# Altium footprint library F407ZGT6.PcbLib: 60 footprints (part 4 of 4)
Each footprint in its own frame and in the unit in brackets; x right, y up, seen from the top. Pads: shape width x height; smd on the part's side, far side on the other; paste and mask are expansions set on the pad; w line width, h text height; cw(c..) or ccw(c..) is an arc to the next point about the centre after c.
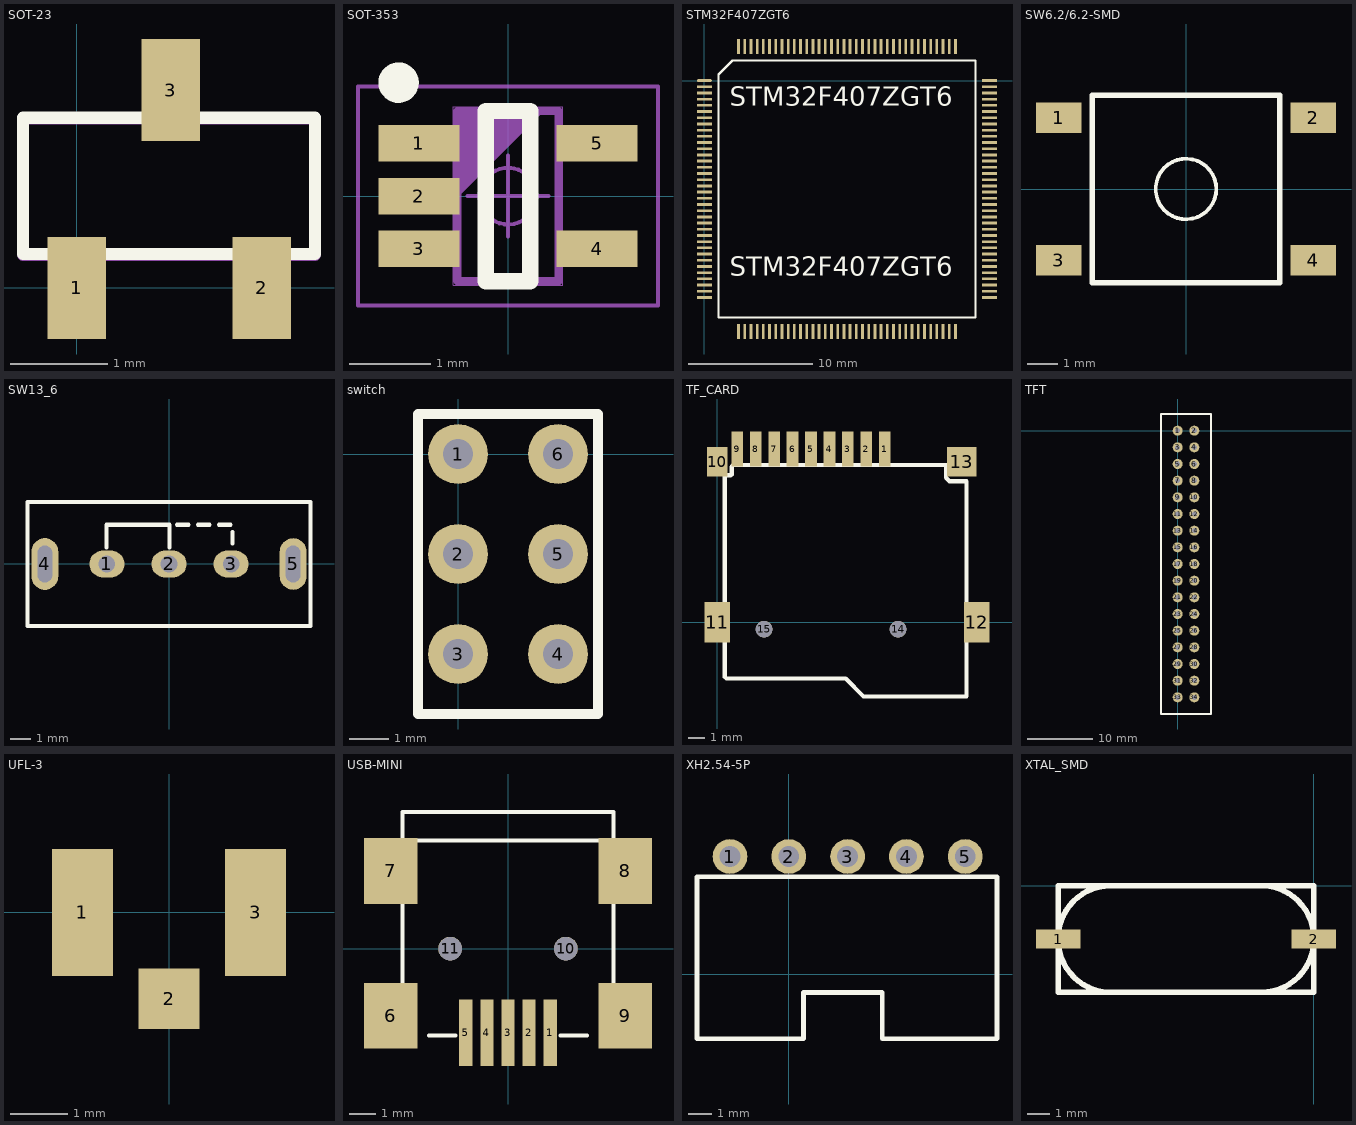
[diagram p3: the footprints below, top view; thin cyan lines are the x and y axes]

## SOT-23 [mm]
pads (3):
  rect 0.6x1.05 smd: 1(0,0) 2(1.9,0) 3(0.965,2.032)
Top Overlay:
  lines w0.127: -0.553,0.348 2.447,0.348 2.447,1.748 -0.553,1.748 -0.553,0.348
Mechanical 1:
  lines w0.127: -0.554,0.342 2.446,0.342 2.446,1.742 -0.554,1.742 -0.554,0.342

## SOT-353 [mm]
height 1.1
pads (5):
  rect 1x0.45 smd: 1(-1.1,0.65) 2(-1.1,0) 3(-1.1,-0.65) 4(1.1,-0.65) 5(1.1,0.65)
Top Overlay:
  circle w0.25: c-1.35,1.4 r0.125
  lines w0.2: -0.275,-1.05 -0.275,1.05 0.275,1.05 0.275,-1.05 -0.275,-1.05
Mechanical 1:
  lines w0.1: -0.625,0.05 0.375,1.05 ; -0.625,0.15 0.275,1.05 ; -0.625,0.25 0.175,1.05 ; -0.625,0.35 0.075,1.05 ; -0.625,0.45 -0.025,1.05 ; -0.625,0.55 -0.125,1.05 ; -0.625,0.65 -0.225,1.05 ; -0.625,0.75 -0.325,1.05 ; -0.625,0.85 -0.425,1.05 ; -0.625,0.95 -0.525,1.05 ; -0.625,-1.05 -0.625,1.05 0.625,1.05 0.625,-1.05 -0.625,-1.05
Mechanical 16:
  circle w0.05: c0,0 r0.35
  lines w0.001: -0.675,-1.1 -0.675,1.1 0.675,1.1 0.675,-1.1 -0.675,-1.1
  lines w0.05: -0.5,0 0.5,0 ; 0,-0.5 0,0.5 ; -1.85,-1.35 -1.85,1.35 1.85,1.35 1.85,-1.35 -1.85,-1.35

## STM32F407ZGT6 [mm]
pads (144):
  oval 1.2x0.22 smd: 1(0,0)
  rect 1.2x0.22 smd: 2(0,-0.5) 3(0,-1) 4(0,-1.5) 5(0,-2) 6(0,-2.5) 7(0,-3) 8(0,-3.5) 9(0,-4) 10(0,-4.5) 11(0,-5) 12(0,-5.5) 13(0,-6) 14(0,-6.5) 15(0,-7) 16(0,-7.5) 17(0,-8) 18(0,-8.5) 19(0,-9) 20(0,-9.5) 21(0,-10) 22(0,-10.5) 23(0,-11) 24(0,-11.5) 25(0,-12) 26(0,-12.5) 27(0,-13) 28(0,-13.5) 29(0,-14) 30(0,-14.5) 31(0,-15) 32(0,-15.5) 33(0,-16) 34(0,-16.5) 35(0,-17) 36(0,-17.5) 73(23,-17.5) 74(23,-17) 75(23,-16.5) 76(23,-16) 77(23,-15.5) 78(23,-15) 79(23,-14.5) 80(23,-14) 81(23,-13.5) 82(23,-13) 83(23,-12.5) 84(23,-12) 85(23,-11.5) 86(23,-11) 87(23,-10.5) 88(23,-10) 89(23,-9.5) 90(23,-9) 91(23,-8.5) 92(23,-8) 93(23,-7.5) 94(23,-7) 95(23,-6.5) 96(23,-6) 97(23,-5.5) 98(23,-5) 99(23,-4.5) 100(23,-4) 101(23,-3.5) 102(23,-3) 103(23,-2.5) 104(23,-2) 105(23,-1.5) 106(23,-1) 107(23,-0.5) 108(23,0)
  rect 0.22x1.2 smd: 37(2.75,-20.25) 38(3.25,-20.25) 39(3.75,-20.25) 40(4.25,-20.25) 41(4.75,-20.25) 42(5.25,-20.25) 43(5.75,-20.25) 44(6.25,-20.25) 45(6.75,-20.25) 46(7.25,-20.25) 47(7.75,-20.25) 48(8.25,-20.25) 49(8.75,-20.25) 50(9.25,-20.25) 51(9.75,-20.25) 52(10.25,-20.25) 53(10.75,-20.25) 54(11.25,-20.25) 55(11.75,-20.25) 56(12.25,-20.25) 57(12.75,-20.25) 58(13.25,-20.25) 59(13.75,-20.25) 60(14.25,-20.25) 61(14.75,-20.25) 62(15.25,-20.25) 63(15.75,-20.25) 64(16.25,-20.25) 65(16.75,-20.25) 66(17.25,-20.25) 67(17.75,-20.25) 68(18.25,-20.25) 69(18.75,-20.25) 70(19.25,-20.25) 71(19.75,-20.25) 72(20.25,-20.25) 109(20.25,2.75) 110(19.75,2.75) 111(19.25,2.75) 112(18.75,2.75) 113(18.25,2.75) 114(17.75,2.75) 115(17.25,2.75) 116(16.75,2.75) 117(16.25,2.75) 118(15.75,2.75) 119(15.25,2.75) 120(14.75,2.75) 121(14.25,2.75) 122(13.75,2.75) 123(13.25,2.75) 124(12.75,2.75) 125(12.25,2.75) 126(11.75,2.75) 127(11.25,2.75) 128(10.75,2.75) 129(10.25,2.75) 130(9.75,2.75) 131(9.25,2.75) 132(8.75,2.75) 133(8.25,2.75) 134(7.75,2.75) 135(7.25,2.75) 136(6.75,2.75) 137(6.25,2.75) 138(5.75,2.75) 139(5.25,2.75) 140(4.75,2.75) 141(4.25,2.75) 142(3.75,2.75) 143(3.25,2.75) 144(2.75,2.75)
Top Overlay:
  lines w0.2: 1.135,-19.115 1.135,0.48 2.27,1.615 21.865,1.615 21.865,-19.115 1.135,-19.115
  text "STM32F407ZGT6" at 2.032,-2.032 h1.52
  text "STM32F407ZGT6" at 2.032,-15.748 h1.52

## SW6.2/6.2-SMD [mm]
pads (4):
  rect 1.5x1 smd: 1(-4.2,2.35) 2(4.2,2.35) 3(-4.2,-2.35) 4(4.2,-2.35)
Top Overlay:
  circle w0.127: c0,0 r1
  lines w0.178: -3.1,-3.1 -3.1,3.1 3.1,3.1 3.1,-3.1 -3.1,-3.1

## SW13_6 [mm]
pads (5):
  oval 1.7x1.3 hole 0.8: 1(-3,0) 2(0,0) 3(3,0)
  oval 1.3x2.5 hole 0.7 slot 1.778 at 90 deg: 4(-6,0) 5(6,0)
Top Overlay:
  lines w0.203: -3.023,0.8 -3.023,1.9 0.025,1.9 0.025,0.8 ; 0.381,1.9 0.94,1.9 ; 1.397,1.9 1.956,1.9 ; 2.413,1.9 2.972,1.9 ; 3.073,0.984 3.073,1.543 ; -6.833,-3 6.833,-3 6.833,3 -6.833,3 -6.833,-3

## switch [mil]
pads (6):
  round 60 hole 30: 1(0,0) 2(0,-100) 3(0,-200) 4(100,-200) 5(100,-100) 6(100,0)
Top Overlay:
  lines w10: -40,-260 -40,40 140,40 140,-260 -40,-260

## TF_CARD [mm]
pads (15):
  rect 0.7x2.1 smd: 1(10,10.35) 2(8.9,10.35) 3(7.8,10.35) 4(6.7,10.35) 5(5.6,10.35) 6(4.5,10.35) 7(3.4,10.35) 8(2.3,10.35) 9(1.2,10.35)
  rect 1.2x1.778 smd: 10(0,9.6)
  rect 1.524x2.413 smd: 11(0,0) 12(15.5,0)
  rrect0% 1.778x1.778 smd: 13(14.6,9.6)
  round 1 hole 1: 14(10.8,-0.4) 15(2.8,-0.4)
Top Overlay:
  lines w0.254: 0.406,8.788 0.457,8.738 0.457,-3.251 0.559,-3.353 7.671,-3.353 8.738,-4.42 14.884,-4.4 14.884,8.433 13.868,8.433 13.665,8.636 13.665,9.398 0.965,9.398 0.864,9.296 0.864,8.839 0.813,8.788 0.406,8.788

## TFT [mil]
pads (34):
  round 60 hole 30: 1(0,0) 2(100,0) 3(0,-100) 4(100,-100) 5(0,-200) 6(100,-200) 7(0,-300) 8(100,-300) 9(0,-400) 10(100,-400) 11(0,-500) 12(100,-500) 13(0,-600) 14(100,-600) 15(0,-700) 16(100,-700) 17(0,-800) 18(100,-800) 19(0,-900) 20(100,-900) 21(0,-1000) 22(100,-1000) 23(0,-1100) 24(100,-1100) 25(0,-1200) 26(100,-1200) 27(0,-1300) 28(100,-1300) 29(0,-1400) 30(100,-1400) 31(0,-1500) 32(100,-1500) 33(0,-1600) 34(100,-1600)
Top Overlay:
  lines w10: -100,-1700 -100,0 -100,100 200,100 200,-1700 -100,-1700

## UFL-3 [mm]
pads (3):
  rect 1.05x2.2 smd: 1(-1.5,0) 3(1.5,0)
  rect 1.05x1.05 smd: 2(0,-1.5)

## USB-MINI [mm]
pads (11):
  rect 0.508x2.54 smd: 1(1.6,-3.2) 2(0.8,-3.2) 3(0,-3.2) 4(-0.8,-3.2) 5(-1.6,-3.2)
  rect 2.032x2.5 smd: 6(-4.45,-2.55) 7(-4.45,2.95) 8(4.45,2.95) 9(4.45,-2.55)
  round 0.9 hole 0.9 unplated: 10(2.2,0) 11(-2.2,0)
Top Overlay:
  lines w0.152: -4,-1.5 -4,1.9 ; -4,4 -4,5.2 4,5.2 4,4 ; -4,4.1 4,4.1 ; -3,-3.3 -2,-3.3 ; 2,-3.3 3,-3.3 ; 4,-1.5 4,1.9

## XH2.54-5P [mm]
pads (5):
  round 1.5 hole 0.9: 1(-2.54,5.08) 2(0,5.08) 3(2.54,5.08) 4(5.08,5.08) 5(7.62,5.08)
Top Overlay:
  lines w0.2: -3.964,-2.794 0.636,-2.794 0.636,-0.794 4.036,-0.794 4.036,-2.794 8.992,-2.794 8.992,4.206 -3.964,4.206 -3.964,-2.794

## XTAL_SMD [mm]
pads (2):
  rect 2x0.85 smd: 1(-11.5,-2.4) 2(0,-2.4)
Top Overlay:
  lines w0.254: -11.5,-2.469 -11.5,-2.4 ; -11.5,-2.468 ccw(c-9.135,-2.435) -9.102,-4.8 ; -11.5,-2.398 cw(c-9.135,-2.365) -9.168,0 ; -2.398,0 cw(c-2.365,-2.365) 0,-2.332 ; -2.332,-4.8 ccw(c-2.365,-2.435) 0,-2.402 ; 0,-2.4 0,-2.331 ; -11.5,-4.8 0,-4.8 0,0 -11.5,0 -11.5,-4.8